# EAGLE library part FTR-110-03-G-D-LC-06 (library NewSDR)
.050" (1,27MM)X .100" (2,54MM) MICRO SURFACE MOUNT TERMINAL STRIP
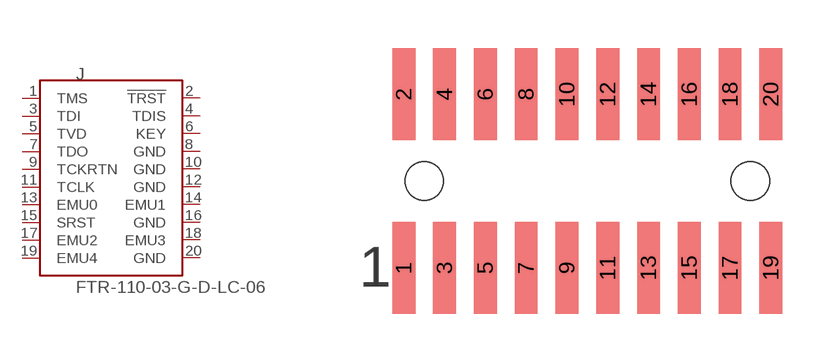
[diagram p170: symbol with the pads of FTR-110-03-G-D-LC-06; footprint FTR-110-03-G-D-LC-06]

Designator prefix J

## FTR-110-03-G-D-LC-06  [FTR-110-03-G-D-LC-06]
1  TMS  pas
2  !TRST  pas
3  TDI  pas
4  TDIS  pas
5  TVD  pas
6  KEY  pas
7  TDO  pas
8  GND  pas
9  TCKRTN  pas
10  GND  pas
11  TCLK  pas
12  GND  pas
13  EMU0  pas
14  EMU1  pas
15  SRST  pas
16  GND  pas
17  EMU2  pas
18  EMU3  pas
19  EMU4  pas
20  GND  pas

## Footprint FTR-110-03-G-D-LC-06 (pad centres in mm)
.050" (1,27MM)X .100" (2,54MM) MICRO SURFACE MOUNT TERMINAL STRIP
smd 0.711 x 2.87: 1 -5.715,-2.705; 2 -5.715,2.705; 3 -4.445,-2.705; 4 -4.445,2.705; 5 -3.175,-2.705; 6 -3.175,2.705; 7 -1.905,-2.705; 8 -1.905,2.705; 9 -0.635,-2.705; 10 -0.635,2.705; 11 0.635,-2.705; 12 0.635,2.705; 13 1.905,-2.705; 14 1.905,2.705; 15 3.175,-2.705; 16 3.175,2.705; 17 4.445,-2.705; 18 4.445,2.705; 19 5.715,-2.705; 20 5.715,2.705
hole 1.194 at -5.08,0
hole 1.194 at 5.08,0